# EAGLE library part TPS54560DDAR (library Smile_Shade)
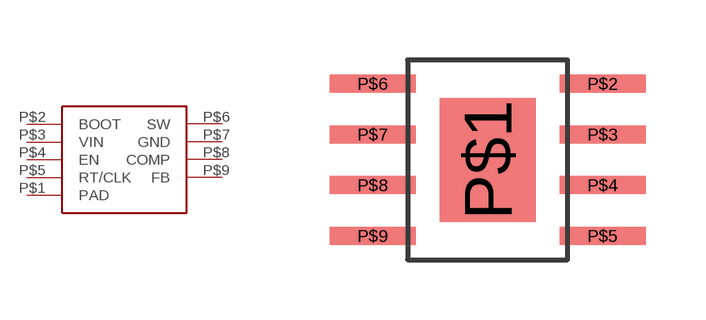
[diagram p8: symbol with the pads of 8-S-POWERPAD; footprint 8-S-POWERPAD]

Designator prefix -

## TPS54560DDAR  [8-S-POWERPAD]
P$1  PAD
P$2  BOOT
P$3  VIN
P$4  EN
P$5  RT/CLK
P$6  SW
P$7  GND
P$8  COMP
P$9  FB

## Footprint 8-S-POWERPAD (pad centres in mm)
smd 2.4 x 3.1: P$1 0,0
smd 2.15 x 0.45: P$2 2.875,1.905; P$3 2.875,0.635; P$4 2.875,-0.635; P$5 2.875,-1.905; P$6 -2.875,1.905; P$7 -2.875,0.635; P$8 -2.875,-0.635; P$9 -2.875,-1.905